# Altium schematic symbol library PDU_YEDEK.SchLib: 83 symbols (part 7 of 10)
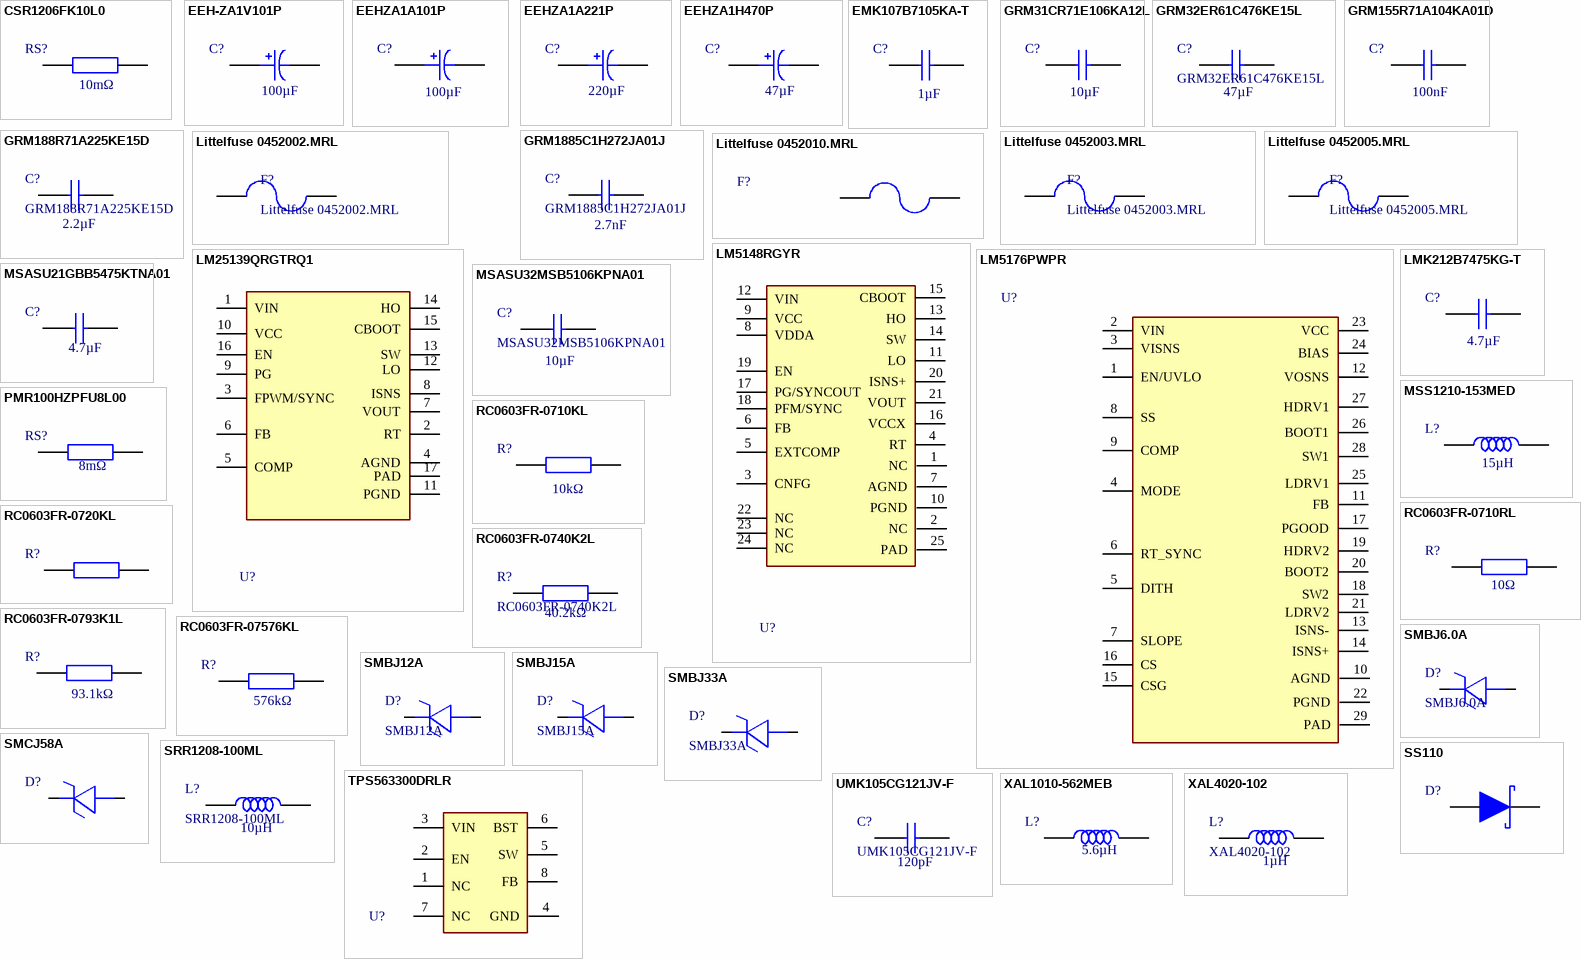
[diagram p8: symbols CSR1206FK10L0 to XAL4020‑102]

## GRM31CR71E106KA12L
designator C?  value 10µF  (hidden comment: GRM31CR71E106KA12L)
25V 10uF X7R ±10% 1206 Multilayer Ceramic Capacitors MLCC - SMD/SMT ROHS; Manufacturer: Murata; Manufacturer Lifecycle Status: IN PRODUCTION; Supplier: Farnell; Supplier Part Number: GRM31CR71E106KA12L; Manufacturer Part Number: GRM31CR71E106KA12L; RoHS: Compliant; Category: Ceramic Capacitors; Stock: 33950; Pricing: 5=0,287, 50=0,122, 250=0,109, 500=0,085, 1000=0,0755 (EUR); Case/Package: 1206; Case Code (Imperial): 1206; Case Code (Metric): 3216; China RoHS: Compliant; Depth: 1.6mm; Dielectric: X7R; Dielectric Material: Ceramic; Height: 1.6mm; Lead Free: Lead Free; Length: 3.2mm; Lifecycle Status: Production; Material: Ceramic; Max Operating Temperature: 125°C; Min Operating Temperature: -55°C; Mounting Technology: Surface Mount; Pins: 2; Number of Terminals: 2; Packaging: Cut Tape; Radiation Hardening: No; REACH SVHC: Yes; Schedule B: 8532240020, 8532240020|8532240020, 8532240020|8532240020|8532240020, 8532240020|8532240020|8532240020|8532240020; Termination: SMD/SMT; Thickness: 1.6mm; Tolerance: 10%; Voltage: 25V; Voltage Rating: 25V; Voltage Rating (DC): 25V; Width: 1.6mm; ComponentLink1URL: https://datasheet.octopart.com:443/GRM31CR71E106KA12L-Murata-datasheet-32479577.pdf?src-supplier=Upverter; ComponentLink1Description: https://datasheet.octopart.com:443/GRM31CR71E106KA12L-Murata-datasheet-32479577.pdf?src-supplier=Upverter; ComponentLink2URL: https://datasheet.octopart.com:443/GRM31CR71E106KA12L-Murata-datasheet-62320264.pdf?src-supplier=Farnell; ComponentLink2Description: https://datasheet.octopart.com:443/GRM31CR71E106KA12L-Murata-datasheet-62320264.pdf?src-supplier=Farnell; ComponentLink3URL: https://datasheet.octopart.com:443/GRM31CR71E106KA12L-Murata-datasheet-7550257.pdf?src-supplier=Farnell; ComponentLink3Description: https://datasheet.octopart.com:443/GRM31CR71E106KA12L-Murata-datasheet-7550257.pdf?src-supplier=Farnell; ComponentLink4URL: https://datasheet.octopart.com:443/GRM31CR71E106KA12L-Murata-datasheet-8817987.pdf?src-supplier=Newark; ComponentLink4Description: https://datasheet.octopart.com:443/GRM31CR71E106KA12L-Murata-datasheet-8817987.pdf?src-supplier=Newark; ComponentLink5URL: https://datasheet.octopart.com:443/GRM31CR71E106KA12L-Murata-datasheet-8085059.pdf?src-supplier=element14+APAC; ComponentLink5Description: https://datasheet.octopart.com:443/GRM31CR71E106KA12L-Murata-datasheet-8085059.pdf?src-supplier=element14+APAC; ComponentLink6URL: https://datasheet.octopart.com:443/GRM31CR71E106KA12L-Murata-datasheet-17853182.pdf?src-supplier=element14+APAC; ComponentLink6Description: https://datasheet.octopart.com:443/GRM31CR71E106KA12L-Murata-datasheet-17853182.pdf?src-supplier=element14+APAC; ComponentLink7URL: https://datasheet.octopart.com:443/GRM31CR71E106KA12L-Murata-datasheet-14397761.pdf?src-supplier=Future+Electronics; ComponentLink7Description: https://datasheet.octopart.com:443/GRM31CR71E106KA12L-Murata-datasheet-14397761.pdf?src-supplier=Future+Electronics; ComponentLink8URL: https://datasheet.octopart.com:443/GRM31CR71E106KA12L-Murata-datasheet-22122223.pdf?src-supplier=Future+Electronics; ComponentLink8Description: https://datasheet.octopart.com:443/GRM31CR71E106KA12L-Murata-datasheet-22122223.pdf?src-supplier=Future+Electronics; ComponentLink9URL: https://datasheet.octopart.com:443/GRM31CR71E106KA12L-Murata-datasheet-12536416.pdf?src-supplier=Future+Electronics; ComponentLink9Description: https://datasheet.octopart.com:443/GRM31CR71E106KA12L-Murata-datasheet-12536416.pdf?src-supplier=Future+Electronics; ComponentLink10URL: https://datasheet.octopart.com:443/GRM31CR71E106KA12L-Murata-datasheet-38883574.pdf?src-supplier=Future+Electronics; ComponentLink10Description: https://datasheet.octopart.com:443/GRM31CR71E106KA12L-Murata-datasheet-38883574.pdf?src-supplier=Future+Electronics; ComponentLink11URL: https://datasheet.octopart.com:443/GRM31CR71E106KA12L-Murata-datasheet-165579666.pdf?src-supplier=TME; ComponentLink11Description: https://datasheet.octopart.com:443/GRM31CR71E106KA12L-Murata-datasheet-165579666.pdf?src-supplier=TME; ComponentLink12URL: https://datasheet.octopart.com:443/GRM31CR71E106KA12L-Murata-datasheet-59876780.pdf?src-supplier=TME; ComponentLink12Description: https://datasheet.octopart.com:443/GRM31CR71E106KA12L-Murata-datasheet-59876780.pdf?src-supplier=TME; ComponentLink13URL: https://datasheet.octopart.com:443/GRM31CR71E106KA12L-Murata-datasheet-140709144.pdf?src-supplier=Ciiva; ComponentLink13Description: https://datasheet.octopart.com:443/GRM31CR71E106KA12L-Murata-datasheet-140709144.pdf?src-supplier=Ciiva; ComponentLink14URL: https://datasheet.octopart.com:443/GRM31CR71E106KA12L-Murata-datasheet-138746391.pdf?src-supplier=Ciiva; ComponentLink14Description: https://datasheet.octopart.com:443/GRM31CR71E106KA12L-Murata-datasheet-138746391.pdf?src-supplier=Ciiva; ComponentLink15URL: https://datasheet.octopart.com:443/GRM31CR71E106KA12L-Murata-datasheet-102370999.pdf?src-supplier=HQonline; ComponentLink15Description: https://datasheet.octopart.com:443/GRM31CR71E106KA12L-Murata-datasheet-102370999.pdf?src-supplier=HQonline; ComponentLink16URL: https://datasheet.octopart.com/GRM31CR71E106KA12L-Murata-datasheet-12515295.pdf; ComponentLink16Description: https://datasheet.octopart.com/GRM31CR71E106KA12L-Murata-datasheet-12515295.pdf; ComponentLink17URL: https://datasheet.octopart.com/GRM31CR71E106KA12L-Murata-datasheet-12510076.pdf; ComponentLink17Description: https://datasheet.octopart.com/GRM31CR71E106KA12L-Murata-datasheet-12510076.pdf; ComponentLink18URL: https://datasheet.octopart.com/GRM31CR71E106KA12L-Murata-datasheet-11978611.pdf; ComponentLink18Description: https://datasheet.octopart.com/GRM31CR71E106KA12L-Murata-datasheet-11978611.pdf; ComponentLink19URL: https://datasheet.octopart.com/GRM31CR71E106KA12L-Murata-datasheet-10025737.pdf; ComponentLink19Description: https://datasheet.octopart.com/GRM31CR71E106KA12L-Murata-datasheet-10025737.pdf; ComponentLink20URL: https://datasheet.octopart.com/GRM31CR71E106KA12L-Murata-datasheet-8819587.pdf; ComponentLink20Description: https://datasheet.octopart.com/GRM31CR71E106KA12L-Murata-datasheet-8819587.pdf; ComponentLink21URL: https://datasheet.octopart.com:443/GRM31CR71E106KA12L-Murata-datasheet-151453090.pdf?src-supplier=Arrow.cn; ComponentLink21Description: https://datasheet.octopart.com:443/GRM31CR71E106KA12L-Murata-datasheet-151453090.pdf?src-supplier=Arrow.cn; ComponentLink22URL: http://sigma.octopart.com:80/reach_statement/Murata-company-16.pdf?src-supplier=Compliance+Statements; ComponentLink22Description: http://sigma.octopart.com:80/reach_statement/Murata-company-16.pdf?src-supplier=Compliance+Statements
pins: 1, 2

## GRM32ER61C476KE15L
designator C?  value 47µF
16V 47uF X5R ±10% 1210 Multilayer Ceramic Capacitors MLCC - SMD/SMT ROHS; Manufacturer: Murata; Manufacturer Lifecycle Status: NRND; Manufacturer Package Identifier: 1210 (3225 Metric); Supplier: Farnell; Supplier Part Number: GRM32ER61C476KE15L; Manufacturer Part Number: GRM32ER61C476KE15L; RoHS: Compliant; Category: Ceramic Capacitors; Stock: 14000; Pricing: 1000=0,303 (EUR); Case/Package: 1210; Case Code (Imperial): 1210; Case Code (Metric): 3225; Depth: 2.5mm; Dielectric: X5R; Dielectric Material: Ceramic; Height: 2.5mm; Lead Free: Lead Free; Length: 3.2mm; Lifecycle Status: NRND; Material: Ceramic; Max Operating Temperature: 85°C; Min Operating Temperature: -55°C; Mounting Technology: Surface Mount; Pins: 2; Number of Terminals: 2; Radiation Hardening: No; REACH SVHC: Yes; Schedule B: 8532240020, 8532240020|8532240020, 8532240020|8532240020|8532240020, 8532240020|8532240020|8532240020|8532240020; Termination: SMD/SMT; Thickness: 2.5mm; Tolerance: 10%; Voltage: 16V; Voltage Rating: 16V; Voltage Rating (DC): 16V; Width: 2.5mm; ComponentLink1URL: https://datasheet.octopart.com:443/GRM32ER61C476KE15L-Murata-datasheet-11893327.pdf?src-supplier=_legacy+Avnet; ComponentLink1Description: https://datasheet.octopart.com:443/GRM32ER61C476KE15L-Murata-datasheet-11893327.pdf?src-supplier=_legacy+Avnet; ComponentLink2URL: https://datasheet.octopart.com:443/GRM32ER61C476KE15L-Murata-datasheet-62317406.pdf?src-supplier=element14+APAC; ComponentLink2Description: https://datasheet.octopart.com:443/GRM32ER61C476KE15L-Murata-datasheet-62317406.pdf?src-supplier=element14+APAC; ComponentLink3URL: https://datasheet.octopart.com:443/GRM32ER61C476KE15L-Murata-datasheet-17853190.pdf?src-supplier=element14+APAC; ComponentLink3Description: https://datasheet.octopart.com:443/GRM32ER61C476KE15L-Murata-datasheet-17853190.pdf?src-supplier=element14+APAC; ComponentLink4URL: https://datasheet.octopart.com:443/GRM32ER61C476KE15L-Murata-datasheet-8817987.pdf?src-supplier=Newark; ComponentLink4Description: https://datasheet.octopart.com:443/GRM32ER61C476KE15L-Murata-datasheet-8817987.pdf?src-supplier=Newark; ComponentLink5URL: https://datasheet.octopart.com:443/GRM32ER61C476KE15L-Murata-datasheet-14403028.pdf?src-supplier=Future+Electronics; ComponentLink5Description: https://datasheet.octopart.com:443/GRM32ER61C476KE15L-Murata-datasheet-14403028.pdf?src-supplier=Future+Electronics; ComponentLink6URL: https://datasheet.octopart.com:443/GRM32ER61C476KE15L-Murata-datasheet-22122223.pdf?src-supplier=Future+Electronics; ComponentLink6Description: https://datasheet.octopart.com:443/GRM32ER61C476KE15L-Murata-datasheet-22122223.pdf?src-supplier=Future+Electronics; ComponentLink7URL: https://datasheet.octopart.com:443/GRM32ER61C476KE15L-Murata-datasheet-44109711.pdf?src-supplier=Future+Electronics; ComponentLink7Description: https://datasheet.octopart.com:443/GRM32ER61C476KE15L-Murata-datasheet-44109711.pdf?src-supplier=Future+Electronics; ComponentLink8URL: https://datasheet.octopart.com:443/GRM32ER61C476KE15L-Murata-datasheet-165579666.pdf?src-supplier=TME; ComponentLink8Description: https://datasheet.octopart.com:443/GRM32ER61C476KE15L-Murata-datasheet-165579666.pdf?src-supplier=TME; ComponentLink9URL: https://datasheet.octopart.com:443/GRM32ER61C476KE15L-Murata-datasheet-59876780.pdf?src-supplier=TME; ComponentLink9Description: https://datasheet.octopart.com:443/GRM32ER61C476KE15L-Murata-datasheet-59876780.pdf?src-supplier=TME; ComponentLink10URL: https://datasheet.octopart.com:443/GRM32ER61C476KE15L-Murata-datasheet-140709622.pdf?src-supplier=Ciiva; ComponentLink10Description: https://datasheet.octopart.com:443/GRM32ER61C476KE15L-Murata-datasheet-140709622.pdf?src-supplier=Ciiva; ComponentLink11URL: https://datasheet.octopart.com:443/GRM32ER61C476KE15L-Murata-datasheet-138747025.pdf?src-supplier=Ciiva; ComponentLink11Description: https://datasheet.octopart.com:443/GRM32ER61C476KE15L-Murata-datasheet-138747025.pdf?src-supplier=Ciiva; ComponentLink12URL: https://datasheet.octopart.com:443/GRM32ER61C476KE15L-Murata-datasheet-102370999.pdf?src-supplier=HQonline; ComponentLink12Description: https://datasheet.octopart.com:443/GRM32ER61C476KE15L-Murata-datasheet-102370999.pdf?src-supplier=HQonline; ComponentLink13URL: https://datasheet.octopart.com:443/GRM32ER61C476KE15L-Murata-datasheet-14047368.pdf?src-supplier=iiiC; ComponentLink13Description: https://datasheet.octopart.com:443/GRM32ER61C476KE15L-Murata-datasheet-14047368.pdf?src-supplier=iiiC; ComponentLink14URL: https://datasheet.octopart.com/GRM32ER61C476KE15L-Murata-datasheet-12515295.pdf; ComponentLink14Description: https://datasheet.octopart.com/GRM32ER61C476KE15L-Murata-datasheet-12515295.pdf; ComponentLink15URL: https://datasheet.octopart.com/GRM32ER61C476KE15L-Murata-datasheet-12510076.pdf; ComponentLink15Description: https://datasheet.octopart.com/GRM32ER61C476KE15L-Murata-datasheet-12510076.pdf; ComponentLink16URL: https://datasheet.octopart.com/GRM32ER61C476KE15L-Murata-datasheet-11978611.pdf; ComponentLink16Description: https://datasheet.octopart.com/GRM32ER61C476KE15L-Murata-datasheet-11978611.pdf; ComponentLink17URL: https://datasheet.octopart.com/GRM32ER61C476KE15L-Murata-datasheet-10025737.pdf; ComponentLink17Description: https://datasheet.octopart.com/GRM32ER61C476KE15L-Murata-datasheet-10025737.pdf; ComponentLink18URL: https://datasheet.octopart.com/GRM32ER61C476KE15L-Murata-datasheet-8819587.pdf; ComponentLink18Description: https://datasheet.octopart.com/GRM32ER61C476KE15L-Murata-datasheet-8819587.pdf; ComponentLink19URL: https://datasheet.octopart.com:443/GRM32ER61C476KE15L.-Murata-datasheet-5332913.pdf?src-supplier=Farnell; ComponentLink19Description: https://datasheet.octopart.com:443/GRM32ER61C476KE15L.-Murata-datasheet-5332913.pdf?src-supplier=Farnell; ComponentLink20URL: http://sigma.octopart.com:80/reach_statement/Murata-company-16.pdf?src-supplier=Compliance+Statements; ComponentLink20Description: http://sigma.octopart.com:80/reach_statement/Murata-company-16.pdf?src-supplier=Compliance+Statements
pins: 1, 2

## GRM155R71A104KA01D
designator C?  value 100nF  (hidden comment: GRM155R71A104KA01D)
10V 100nF X7R ±10% 0402 Multilayer Ceramic Capacitors MLCC - SMD/SMT ROHS; Manufacturer: Murata; Manufacturer Lifecycle Status: NRND; Dissipation Factor: 0.035%; Supplier: Farnell; Supplier Part Number: GRM155R71A104KA01D; Manufacturer Part Number: GRM155R71A104KA01D; RoHS: Compliant; Category: Ceramic Capacitors; Stock: 200000; Pricing: 10000=0,0029 (EUR); Case/Package: 0402; Case Code (Imperial): 0402; Case Code (Metric): 1005; Country of Origin: Japan, Mainland China, Philippines, Singapore, Thailand; Depth: 500µm; Dielectric: X7R; Dielectric Material: Ceramic; Export Control Classification Number (ECCN) Code: EAR99; Height: 500µm; Harmonized Tariff Schedule (HTS) Code: 8532.24.00.20; Introduction Date: 2004-11-19; Lead Free: Lead Free; Length: 1mm; Lifecycle Status: NRND; Material: Ceramic; Max Operating Temperature: 125°C; Min Operating Temperature: -55°C; Mounting Technology: Surface Mount; Pins: 2; Number of Terminals: 2; Packaging: Cut Tape; Radiation Hardening: No; REACH SVHC: Yes; Schedule B: 8532240020, 8532240020|8532240020, 8532240020|8532240020|8532240020, 8532240020|8532240020|8532240020|8532240020; Termination: SMD/SMT; Thickness: 500µm; Tolerance: 10%; Voltage: 10V; Voltage Rating: 10V; Voltage Rating (DC): 10V; Width: 500µm; ComponentLink1URL: https://datasheet.octopart.com:443/GRM155R71A104KA01D-Murata-datasheet-62317114.pdf?src-supplier=element14+APAC; ComponentLink1Description: https://datasheet.octopart.com:443/GRM155R71A104KA01D-Murata-datasheet-62317114.pdf?src-supplier=element14+APAC; ComponentLink2URL: https://datasheet.octopart.com:443/GRM155R71A104KA01D-Murata-datasheet-17853094.pdf?src-supplier=element14+APAC; ComponentLink2Description: https://datasheet.octopart.com:443/GRM155R71A104KA01D-Murata-datasheet-17853094.pdf?src-supplier=element14+APAC; ComponentLink3URL: https://datasheet.octopart.com/GRM155R71A104KA01D-Murata-datasheet-12515295.pdf; ComponentLink3Description: https://datasheet.octopart.com/GRM155R71A104KA01D-Murata-datasheet-12515295.pdf; ComponentLink4URL: https://datasheet.octopart.com/GRM155R71A104KA01D-Murata-datasheet-12510076.pdf; ComponentLink4Description: https://datasheet.octopart.com/GRM155R71A104KA01D-Murata-datasheet-12510076.pdf; ComponentLink5URL: https://datasheet.octopart.com/GRM155R71A104KA01D-Murata-datasheet-11978611.pdf; ComponentLink5Description: https://datasheet.octopart.com/GRM155R71A104KA01D-Murata-datasheet-11978611.pdf; ComponentLink6URL: https://datasheet.octopart.com/GRM155R71A104KA01D-Murata-datasheet-10025737.pdf; ComponentLink6Description: https://datasheet.octopart.com/GRM155R71A104KA01D-Murata-datasheet-10025737.pdf; ComponentLink7URL: https://datasheet.octopart.com/GRM155R71A104KA01D-Murata-datasheet-8819587.pdf; ComponentLink7Description: https://datasheet.octopart.com/GRM155R71A104KA01D-Murata-datasheet-8819587.pdf; ComponentLink8URL: https://datasheet.octopart.com/GRM155R71A104KA01D-Murata-datasheet-14400553.pdf; ComponentLink8Description: https://datasheet.octopart.com/GRM155R71A104KA01D-Murata-datasheet-14400553.pdf; ComponentLink9URL: https://datasheet.octopart.com:443/GRM155R71A104KA01D-Murata-datasheet-8817987.pdf?src-supplier=Newark; ComponentLink9Description: https://datasheet.octopart.com:443/GRM155R71A104KA01D-Murata-datasheet-8817987.pdf?src-supplier=Newark; ComponentLink10URL: https://datasheet.octopart.com:443/GRM155R71A104KA01D-Murata-datasheet-141266224.pdf?src-supplier=Ciiva; ComponentLink10Description: https://datasheet.octopart.com:443/GRM155R71A104KA01D-Murata-datasheet-141266224.pdf?src-supplier=Ciiva; ComponentLink11URL: https://datasheet.octopart.com:443/GRM155R71A104KA01D-Murata-datasheet-140690910.pdf?src-supplier=Ciiva; ComponentLink11Description: https://datasheet.octopart.com:443/GRM155R71A104KA01D-Murata-datasheet-140690910.pdf?src-supplier=Ciiva; ComponentLink12URL: https://datasheet.octopart.com:443/GRM155R71A104KA01D-Murata-datasheet-138740856.pdf?src-supplier=Ciiva; ComponentLink12Description: https://datasheet.octopart.com:443/GRM155R71A104KA01D-Murata-datasheet-138740856.pdf?src-supplier=Ciiva; ComponentLink13URL: https://datasheet.octopart.com:443/GRM155R71A104KA01D-Murata-datasheet-81455577.pdf?src-supplier=TME; ComponentLink13Description: https://datasheet.octopart.com:443/GRM155R71A104KA01D-Murata-datasheet-81455577.pdf?src-supplier=TME; ComponentLink14URL: https://datasheet.octopart.com:443/GRM155R71A104KA01D-Murata-datasheet-22122223.pdf?src-supplier=Future+Electronics; ComponentLink14Description: https://datasheet.octopart.com:443/GRM155R71A104KA01D-Murata-datasheet-22122223.pdf?src-supplier=Future+Electronics; ComponentLink15URL: https://datasheet.octopart.com:443/GRM155R71A104KA01D-Murata-datasheet-11966204.pdf?src-supplier=Arrow+Electronics; ComponentLink15Description: https://datasheet.octopart.com:443/GRM155R71A104KA01D-Murata-datasheet-11966204.pdf?src-supplier=Arrow+Electronics; ComponentLink16URL: https://datasheet.octopart.com:443/GRM155R71A104KA01D-Murata-datasheet-7576002.pdf?src-supplier=Jameco; ComponentLink16Description: https://datasheet.octopart.com:443/GRM155R71A104KA01D-Murata-datasheet-7576002.pdf?src-supplier=Jameco; ComponentLink17URL: https://datasheet.octopart.com:443/GRM155R71A104KA01D-Murata-datasheet-8326030.pdf?src-supplier=_legacy+Avnet; ComponentLink17Description: https://datasheet.octopart.com:443/GRM155R71A104KA01D-Murata-datasheet-8326030.pdf?src-supplier=_legacy+Avnet; ComponentLink18URL: https://datasheet.octopart.com:443/GRM155R71A104KA01D-Murata-datasheet-148211.pdf?src-supplier=Garrett; ComponentLink18Description: https://datasheet.octopart.com:443/GRM155R71A104KA01D-Murata-datasheet-148211.pdf?src-supplier=Garrett; ComponentLink19URL: http://sigma.octopart.com:80/reach_statement/Murata-company-16.pdf?src-supplier=Compliance+Statements; ComponentLink19Description: http://sigma.octopart.com:80/reach_statement/Murata-company-16.pdf?src-supplier=Compliance+Statements
pins: 1, 2

## GRM188R71A225KE15D
designator C?  value 2.2µF
10V 2.2uF X7R ±10% 0603 Multilayer Ceramic Capacitors MLCC - SMD/SMT ROHS; Manufacturer: Murata; Manufacturer Lifecycle Status: IN PRODUCTION; Supplier: Farnell; Supplier Part Number: GRM188R71A225KE15D; Manufacturer Part Number: GRM188R71A225KE15D; RoHS: Compliant; Category: Ceramic Capacitors; Stock: 68000; Pricing: 4000=0,022 (EUR); Case/Package: 0603; Case Code (Imperial): 0603; Case Code (Metric): 1608; Country of Origin: Philippines; Depth: 800µm; Dielectric: X7R; Dielectric Material: Ceramic; Export Control Classification Number (ECCN) Code: EAR99; Height: 800µm; Harmonized Tariff Schedule (HTS) Code: 8532.24.00.20; Introduction Date: 2006-06-22; Lead Free: Lead Free; Length: 1.6mm; Lifecycle Status: Production; Material: Ceramic; Max Operating Temperature: 125°C; Min Operating Temperature: -55°C; Mounting Technology: Surface Mount; Pins: 2; Number of Terminals: 2; Packaging: Cut Tape; REACH SVHC: Yes; Schedule B: 8532240020, 8532240020|8532240020, 8532240020|8532240020|8532240020, 8532240020|8532240020|8532240020|8532240020; Termination: SMD/SMT; Thickness: 800µm; Tolerance: 10%; Voltage: 10V; Voltage Rating: 10V; Voltage Rating (DC): 10V; Weight: 2.012816mg; Width: 800µm; ComponentLink1URL: https://datasheet.octopart.com:443/GRM188R71A225KE15D-Murata-datasheet-62317205.pdf?src-supplier=element14+APAC; ComponentLink1Description: https://datasheet.octopart.com:443/GRM188R71A225KE15D-Murata-datasheet-62317205.pdf?src-supplier=element14+APAC; ComponentLink2URL: https://datasheet.octopart.com:443/GRM188R71A225KE15D-Murata-datasheet-14713224.pdf?src-supplier=element14+APAC; ComponentLink2Description: https://datasheet.octopart.com:443/GRM188R71A225KE15D-Murata-datasheet-14713224.pdf?src-supplier=element14+APAC; ComponentLink3URL: https://datasheet.octopart.com:443/GRM188R71A225KE15D-Murata-datasheet-8814637.pdf?src-supplier=Newark; ComponentLink3Description: https://datasheet.octopart.com:443/GRM188R71A225KE15D-Murata-datasheet-8814637.pdf?src-supplier=Newark; ComponentLink4URL: https://datasheet.octopart.com/GRM188R71A225KE15D-Murata-datasheet-12526711.pdf; ComponentLink4Description: https://datasheet.octopart.com/GRM188R71A225KE15D-Murata-datasheet-12526711.pdf; ComponentLink5URL: https://datasheet.octopart.com/GRM188R71A225KE15D-Murata-datasheet-12515295.pdf; ComponentLink5Description: https://datasheet.octopart.com/GRM188R71A225KE15D-Murata-datasheet-12515295.pdf; ComponentLink6URL: https://datasheet.octopart.com/GRM188R71A225KE15D-Murata-datasheet-12510076.pdf; ComponentLink6Description: https://datasheet.octopart.com/GRM188R71A225KE15D-Murata-datasheet-12510076.pdf; ComponentLink7URL: https://datasheet.octopart.com/GRM188R71A225KE15D-Murata-datasheet-11978611.pdf; ComponentLink7Description: https://datasheet.octopart.com/GRM188R71A225KE15D-Murata-datasheet-11978611.pdf; ComponentLink8URL: https://datasheet.octopart.com/GRM188R71A225KE15D-Murata-datasheet-10025737.pdf; ComponentLink8Description: https://datasheet.octopart.com/GRM188R71A225KE15D-Murata-datasheet-10025737.pdf; ComponentLink9URL: https://datasheet.octopart.com/GRM188R71A225KE15D-Murata-datasheet-8819587.pdf; ComponentLink9Description: https://datasheet.octopart.com/GRM188R71A225KE15D-Murata-datasheet-8819587.pdf; ComponentLink10URL: https://datasheet.octopart.com:443/GRM188R71A225KE15D-Murata-datasheet-165579666.pdf?src-supplier=TME; ComponentLink10Description: https://datasheet.octopart.com:443/GRM188R71A225KE15D-Murata-datasheet-165579666.pdf?src-supplier=TME; ComponentLink11URL: https://datasheet.octopart.com:443/GRM188R71A225KE15D-Murata-datasheet-59876780.pdf?src-supplier=TME; ComponentLink11Description: https://datasheet.octopart.com:443/GRM188R71A225KE15D-Murata-datasheet-59876780.pdf?src-supplier=TME; ComponentLink12URL: https://datasheet.octopart.com:443/GRM188R71A225KE15D-Murata-datasheet-141274968.pdf?src-supplier=Ciiva; ComponentLink12Description: https://datasheet.octopart.com:443/GRM188R71A225KE15D-Murata-datasheet-141274968.pdf?src-supplier=Ciiva; ComponentLink13URL: https://datasheet.octopart.com:443/GRM188R71A225KE15D-Murata-datasheet-140705380.pdf?src-supplier=Ciiva; ComponentLink13Description: https://datasheet.octopart.com:443/GRM188R71A225KE15D-Murata-datasheet-140705380.pdf?src-supplier=Ciiva; ComponentLink14URL: https://datasheet.octopart.com:443/GRM188R71A225KE15D-Murata-datasheet-138742948.pdf?src-supplier=Ciiva; ComponentLink14Description: https://datasheet.octopart.com:443/GRM188R71A225KE15D-Murata-datasheet-138742948.pdf?src-supplier=Ciiva; ComponentLink15URL: https://datasheet.octopart.com:443/GRM188R71A225KE15D-Murata-datasheet-82944801.pdf?src-supplier=Future+Electronics; ComponentLink15Description: https://datasheet.octopart.com:443/GRM188R71A225KE15D-Murata-datasheet-82944801.pdf?src-supplier=Future+Electronics; ComponentLink16URL: https://datasheet.octopart.com:443/GRM188R71A225KE15D-Murata-datasheet-22122223.pdf?src-supplier=Future+Electronics; ComponentLink16Description: https://datasheet.octopart.com:443/GRM188R71A225KE15D-Murata-datasheet-22122223.pdf?src-supplier=Future+Electronics; ComponentLink17URL: https://datasheet.octopart.com:443/GRM188R71A225KE15D-Murata-datasheet-8324774.pdf?src-supplier=Future+Electronics; ComponentLink17Description: https://datasheet.octopart.com:443/GRM188R71A225KE15D-Murata-datasheet-8324774.pdf?src-supplier=Future+Electronics; ComponentLink18URL: https://datasheet.octopart.com:443/GRM188R71A225KE15D-Murata-datasheet-502279.pdf?src-supplier=Future+Electronics; ComponentLink18Description: https://datasheet.octopart.com:443/GRM188R71A225KE15D-Murata-datasheet-502279.pdf?src-supplier=Future+Electronics; ComponentLink19URL: https://datasheet.octopart.com:443/GRM188R71A225KE15D-Murata-datasheet-44107671.pdf?src-supplier=Future+Electronics; ComponentLink19Description: https://datasheet.octopart.com:443/GRM188R71A225KE15D-Murata-datasheet-44107671.pdf?src-supplier=Future+Electronics; ComponentLink20URL: https://datasheet.octopart.com:443/GRM188R71A225KE15D-Murata-datasheet-12510170.pdf?src-supplier=Factory+Futures; ComponentLink20Description: https://datasheet.octopart.com:443/GRM188R71A225KE15D-Murata-datasheet-12510170.pdf?src-supplier=Factory+Futures; ComponentLink21URL: https://datasheet.octopart.com:443/GRM188R71A225KE15D-Murata-datasheet-8517407.pdf?src-supplier=Factory+Futures; ComponentLink21Description: https://datasheet.octopart.com:443/GRM188R71A225KE15D-Murata-datasheet-8517407.pdf?src-supplier=Factory+Futures; ComponentLink22URL: https://datasheet.octopart.com:443/GRM188R71A225KE15D-Murata-datasheet-8387045.pdf?src-supplier=Factory+Futures; ComponentLink22Description: https://datasheet.octopart.com:443/GRM188R71A225KE15D-Murata-datasheet-8387045.pdf?src-supplier=Factory+Futures; ComponentLink23URL: https://datasheet.octopart.com:443/GRM188R71A225KE15D-Murata-datasheet-8324201.pdf?src-supplier=Factory+Futures; ComponentLink23Description: https://datasheet.octopart.com:443/GRM188R71A225KE15D-Murata-datasheet-8324201.pdf?src-supplier=Factory+Futures; ComponentLink24URL: https://datasheet.octopart.com:443/GRM188R71A225KE15D-Murata-datasheet-7628724.pdf?src-supplier=Factory+Futures; ComponentLink24Description: https://datasheet.octopart.com:443/GRM188R71A225KE15D-Murata-datasheet-7628724.pdf?src-supplier=Factory+Futures; ComponentLink25URL: https://datasheet.octopart.com:443/GRM188R71A225KE15D-Murata-datasheet-552801.pdf?src-supplier=Factory+Futures; ComponentLink25Description: https://datasheet.octopart.com:443/GRM188R71A225KE15D-Murata-datasheet-552801.pdf?src-supplier=Factory+Futures; ComponentLink26URL: https://datasheet.octopart.com:443/GRM188R71A225KE15D-Murata-datasheet-11727461.pdf?src-supplier=Arrow+Electronics; ComponentLink26Description: https://datasheet.octopart.com:443/GRM188R71A225KE15D-Murata-datasheet-11727461.pdf?src-supplier=Arrow+Electronics; ComponentLink27URL: https://datasheet.octopart.com:443/GRM188R71A225KE15D-Murata-datasheet-118811.pdf?src-supplier=DigiKey; ComponentLink27Description: https://datasheet.octopart.com:443/GRM188R71A225KE15D-Murata-datasheet-118811.pdf?src-supplier=DigiKey; ComponentLink28URL: http://sigma.octopart.com:80/reach_statement/Murata-company-16.pdf?src-supplier=Compliance+Statements; ComponentLink28Description: http://sigma.octopart.com:80/reach_statement/Murata-company-16.pdf?src-supplier=Compliance+Statements
pins: 1, 2

## GRM1885C1H272JA01J
designator C?  value 2.7nF
0603 2.7 nF 50 V ±5% Tolerance C0G SMT Multilayer Ceramic Capacitor; Manufacturer: Murata; Manufacturer Lifecycle Status: IN PRODUCTION; Temperature Coefficient: 30ppm/°C; Voltage Rating: 50V; Supplier: Arrow Electronics; Supplier Part Number: GRM1885C1H272JA01J; Manufacturer Part Number: GRM1885C1H272JA01J; RoHS: Compliant; Category: Ceramic Capacitors; Stock: 5058; Pricing: 1=0,004, 10=0,0037, 25=0,0033, 100=0,003, 250=0,0027, 500=0,0023, 1000=0,002, 3000=0,0017 (USD); Case/Package: 0603; Case Code (Imperial): 0603; Case Code (Metric): 1608; Depth: 800µm; Dielectric: C0G; Dielectric Material: Ceramic; Export Control Classification Number (ECCN) Code: EAR99; Height: 800µm; Harmonized Tariff Schedule (HTS) Code: 8532.24.00.20; Introduction Date: 2004-09-04; Lead Free: Lead Free; Length: 1.6mm; Lifecycle Status: Production; Material: Ceramic; Max Operating Temperature: 125°C; Min Operating Temperature: -55°C; Mounting Technology: Surface Mount; Number of Terminals: 2; Packaging: Tape & Reel; Radiation Hardening: No; REACH SVHC: Yes; Schedule B: 8532240020, 8532240020|8532240020|8532240020|8532240020|8532240020; Termination: SMD/SMT; Thickness: 800µm; Tolerance: 5%; Voltage Rating (DC): 50V; Width: 800µm; ComponentLink1URL: https://datasheet.octopart.com:443/GRM1885C1H272JA01J-Murata-datasheet-8328230.pdf?src-supplier=Future+Electronics; ComponentLink1Description: https://datasheet.octopart.com:443/GRM1885C1H272JA01J-Murata-datasheet-8328230.pdf?src-supplier=Future+Electronics; ComponentLink2URL: https://datasheet.octopart.com:443/GRM1885C1H272JA01J-Murata-datasheet-22122223.pdf?src-supplier=Future+Electronics; ComponentLink2Description: https://datasheet.octopart.com:443/GRM1885C1H272JA01J-Murata-datasheet-22122223.pdf?src-supplier=Future+Electronics; ComponentLink3URL: https://datasheet.octopart.com:443/GRM1885C1H272JA01J-Murata-datasheet-26530162.pdf?src-supplier=Future+Electronics; ComponentLink3Description: https://datasheet.octopart.com:443/GRM1885C1H272JA01J-Murata-datasheet-26530162.pdf?src-supplier=Future+Electronics; ComponentLink4URL: https://datasheet.octopart.com:443/GRM1885C1H272JA01J-Murata-datasheet-141274271.pdf?src-supplier=Ciiva; ComponentLink4Description: https://datasheet.octopart.com:443/GRM1885C1H272JA01J-Murata-datasheet-141274271.pdf?src-supplier=Ciiva; ComponentLink5URL: https://datasheet.octopart.com:443/GRM1885C1H272JA01J-Murata-datasheet-140696475.pdf?src-supplier=Ciiva; ComponentLink5Description: https://datasheet.octopart.com:443/GRM1885C1H272JA01J-Murata-datasheet-140696475.pdf?src-supplier=Ciiva; ComponentLink6URL: https://datasheet.octopart.com:443/GRM1885C1H272JA01J-Murata-datasheet-138741538.pdf?src-supplier=Ciiva; ComponentLink6Description: https://datasheet.octopart.com:443/GRM1885C1H272JA01J-Murata-datasheet-138741538.pdf?src-supplier=Ciiva; ComponentLink7URL: https://datasheet.octopart.com:443/GRM1885C1H272JA01J-Murata-datasheet-155239085.pdf?src-supplier=Farnell; ComponentLink7Description: https://datasheet.octopart.com:443/GRM1885C1H272JA01J-Murata-datasheet-155239085.pdf?src-supplier=Farnell; ComponentLink8URL: https://datasheet.octopart.com/GRM1885C1H272JA01J-Murata-datasheet-12515295.pdf; ComponentLink8Description: https://datasheet.octopart.com/GRM1885C1H272JA01J-Murata-datasheet-12515295.pdf; ComponentLink9URL: https://datasheet.octopart.com/GRM1885C1H272JA01J-Murata-datasheet-12510076.pdf; ComponentLink9Description: https://datasheet.octopart.com/GRM1885C1H272JA01J-Murata-datasheet-12510076.pdf; ComponentLink10URL: https://datasheet.octopart.com/GRM1885C1H272JA01J-Murata-datasheet-11978611.pdf; ComponentLink10Description: https://datasheet.octopart.com/GRM1885C1H272JA01J-Murata-datasheet-11978611.pdf; ComponentLink11URL: https://datasheet.octopart.com/GRM1885C1H272JA01J-Murata-datasheet-10025737.pdf; ComponentLink11Description: https://datasheet.octopart.com/GRM1885C1H272JA01J-Murata-datasheet-10025737.pdf; ComponentLink12URL: https://datasheet.octopart.com/GRM1885C1H272JA01J-Murata-datasheet-8819587.pdf; ComponentLink12Description: https://datasheet.octopart.com/GRM1885C1H272JA01J-Murata-datasheet-8819587.pdf; ComponentLink13URL: https://datasheet.octopart.com/GRM1885C1H272JA01J-Murata-datasheet-14397128.pdf; ComponentLink13Description: https://datasheet.octopart.com/GRM1885C1H272JA01J-Murata-datasheet-14397128.pdf; ComponentLink14URL: http://sigma.octopart.com:80/reach_statement/Murata-company-16.pdf?src-supplier=Compliance+Statements; ComponentLink14Description: http://sigma.octopart.com:80/reach_statement/Murata-company-16.pdf?src-supplier=Compliance+Statements
pins: 1, 2

## Littelfuse 0452002.MRL
designator F?
452 Series - NANO2®Slo-Blo®Subminiature Surface Mount Fuse, 2 A, 125 VAC 125 VDC, RoHS; Approvals: CSA, PSE, UL, UR; Body Material: Ceramic; Current Rating: 2A; Ratings: CE, CSA, TUV; Value: 62.5mΩ; Time to Trip: 2ms; Voltage Rating: 125V; Supplier: Farnell; Supplier Part Number: 0452002.MRL; Manufacturer: Littelfuse; Manufacturer Part Number: 0452002.MRL; RoHS: Compliant; Category: Fuses; Stock: 14395; Pricing: 1=2,46, 50=1,56, 100=1,45, 250=1,29, 500=1,24 (EUR); Case/Package: SMD/SMT; China RoHS: Non-Compliant; Contact Plating: Gold; Country of Origin: Philippines; Depth: 2.69mm; Diameter: 2.69mm; Export Control Classification Number (ECCN) Code: EAR99; Fuse Current: 2A; Height: 2.69mm; Housing Material: Ceramic; Harmonized Tariff Schedule (HTS) Code: 8536.10.00.40; Introduction Date: 2005-07-31; Lead Free: Lead Free; Length: 6.1mm; Lifecycle Status: Production; Max Operating Temperature: 125°C; Min Operating Temperature: -55°C; Mounting Technology: Surface Mount; Pins: 2; Radiation Hardening: No; REACH SVHC: No; Terminal Material: Gold; Termination: SMD/SMT; Voltage Rating (AC): 125V; Voltage Rating (DC): 125V; Width: 2.69mm; Working Voltage: 125V; ComponentLink1URL: https://datasheet.octopart.com:443/0452002.MRL-Littelfuse-datasheet-150463550.pdf?src-supplier=IHS; ComponentLink1Description: https://datasheet.octopart.com:443/0452002.MRL-Littelfuse-datasheet-150463550.pdf?src-supplier=IHS; ComponentLink2URL: https://datasheet.octopart.com:443/0452002.MRL-Littelfuse-datasheet-24577142.pdf?src-supplier=Upverter; ComponentLink2Description: https://datasheet.octopart.com:443/0452002.MRL-Littelfuse-datasheet-24577142.pdf?src-supplier=Upverter; ComponentLink3URL: https://datasheet.octopart.com:443/0452002.MRL-Littelfuse-datasheet-4520.pdf?src-supplier=Farnell; ComponentLink3Description: https://datasheet.octopart.com:443/0452002.MRL-Littelfuse-datasheet-4520.pdf?src-supplier=Farnell; ComponentLink4URL: https://datasheet.octopart.com:443/0452002.MRL-Littelfuse-datasheet-65933515.pdf?src-supplier=Farnell; ComponentLink4Description: https://datasheet.octopart.com:443/0452002.MRL-Littelfuse-datasheet-65933515.pdf?src-supplier=Farnell; ComponentLink5URL: https://datasheet.octopart.com:443/0452002.MRL-Littelfuse-datasheet-71421564.pdf?src-supplier=Farnell; ComponentLink5Description: https://datasheet.octopart.com:443/0452002.MRL-Littelfuse-datasheet-71421564.pdf?src-supplier=Farnell; ComponentLink6URL: https://datasheet.octopart.com:443/0452002.MRL-Littelfuse-datasheet-524166.pdf?src-supplier=Farnell; ComponentLink6Description: https://datasheet.octopart.com:443/0452002.MRL-Littelfuse-datasheet-524166.pdf?src-supplier=Farnell; ComponentLink7URL: https://datasheet.octopart.com:443/0452002.MRL-Littelfuse-datasheet-22975140.pdf?src-supplier=Newark; ComponentLink7Description: https://datasheet.octopart.com:443/0452002.MRL-Littelfuse-datasheet-22975140.pdf?src-supplier=Newark; ComponentLink8URL: https://datasheet.octopart.com:443/0452002.MRL-Littelfuse-datasheet-11544861.pdf?src-supplier=Factory+Futures; ComponentLink8Description: https://datasheet.octopart.com:443/0452002.MRL-Littelfuse-datasheet-11544861.pdf?src-supplier=Factory+Futures; ComponentLink9URL: https://datasheet.octopart.com:443/0452002.MRL-Littelfuse-datasheet-8529048.pdf?src-supplier=Factory+Futures; ComponentLink9Description: https://datasheet.octopart.com:443/0452002.MRL-Littelfuse-datasheet-8529048.pdf?src-supplier=Factory+Futures; ComponentLink10URL: https://datasheet.octopart.com:443/0452002.MRL-Littelfuse-datasheet-520781.pdf?src-supplier=TME; ComponentLink10Description: https://datasheet.octopart.com:443/0452002.MRL-Littelfuse-datasheet-520781.pdf?src-supplier=TME; ComponentLink11URL: https://datasheet.octopart.com:443/0452002.MRL-Littelfuse-datasheet-170674127.pdf?src-supplier=JRH+Electronics; ComponentLink11Description: https://datasheet.octopart.com:443/0452002.MRL-Littelfuse-datasheet-170674127.pdf?src-supplier=JRH+Electronics; ComponentLink12URL: https://datasheet.octopart.com:443/0452002.MRL-Littelfuse-datasheet-128569235.pdf?src-supplier=ODG+(Origin+Data+Global); ComponentLink12Description: https://datasheet.octopart.com:443/0452002.MRL-Littelfuse-datasheet-128569235.pdf?src-supplier=ODG+(Origin+Data+Global); ComponentLink13URL: https://datasheet.octopart.com:443/0452002.MRL-Littelfuse-datasheet-41168772.pdf?src-supplier=element14+APAC; ComponentLink13Description: https://datasheet.octopart.com:443/0452002.MRL-Littelfuse-datasheet-41168772.pdf?src-supplier=element14+APAC; ComponentLink14URL: https://datasheet.octopart.com:443/0452002.MRL-Littelfuse-datasheet-183575672.pdf?src-supplier=Sager+Electronics; ComponentLink14Description: https://datasheet.octopart.com:443/0452002.MRL-Littelfuse-datasheet-183575672.pdf?src-supplier=Sager+Electronics; ComponentLink15URL: https://datasheet.octopart.com:443/0452002.MRL-Littelfuse-datasheet-43099221.pdf?src-supplier=RS+(Formerly+Allied+Electronics); ComponentLink15Description: https://datasheet.octopart.com:443/0452002.MRL-Littelfuse-datasheet-43099221.pdf?src-supplier=RS+(Formerly+Allied+Electronics); ComponentLink16URL: https://datasheet.octopart.com:443/0452002.MRL-Littelfuse-datasheet-17291148.pdf?src-supplier=Burklin+Elektronik; ComponentLink16Description: https://datasheet.octopart.com:443/0452002.MRL-Littelfuse-datasheet-17291148.pdf?src-supplier=Burklin+Elektronik
pins: 1, 2

## Littelfuse 0452003.MRL
designator F?
Fuse Chip Slow Blow Acting 3A 125V SMD Solder Pad 2410 Ceramic T/R CSA/PSE/UL; Approvals: CSA, PSE, UL, UR; Ratings: CE, CSA, TUV; Value: 34mΩ; Time to Trip: 2ms; Supplier: Farnell; Supplier Part Number: 0452003.MRL; Manufacturer: Littelfuse; Manufacturer Part Number: 0452003.MRL; RoHS: Compliant; Category: Fuses; Stock: 1599; Pricing: 1=2,43, 50=1,54, 100=1,45, 250=1,28, 500=1,24 (EUR); Body Material: Ceramic; Case/Package: SMD/SMT; China RoHS: Non-Compliant; Contact Plating: Gold; Country of Origin: Philippines; Current Rating: 3A; Depth: 2.69mm; Diameter: 2.69mm; Export Control Classification Number (ECCN) Code: EAR99; Fuse Current: 3A; Height: 2.69mm; Housing Material: Ceramic; Harmonized Tariff Schedule (HTS) Code: 8536.10.00.40; Introduction Date: 2005-07-31; Lead Free: Lead Free; Length: 6.1mm; Lifecycle Status: Production; Max Operating Temperature: 125°C; Min Operating Temperature: -55°C; Mounting Technology: Surface Mount; Pins: 2; Radiation Hardening: No; REACH SVHC: No; Terminal Material: Gold; Termination: SMD/SMT; Voltage Rating: 125V; Voltage Rating (AC): 125V; Voltage Rating (DC): 125V; Width: 2.69mm; Working Voltage: 125V; ComponentLink1URL: https://datasheet.octopart.com:443/0452003.MRL-Littelfuse-datasheet-150463550.pdf?src-supplier=IHS; ComponentLink1Description: https://datasheet.octopart.com:443/0452003.MRL-Littelfuse-datasheet-150463550.pdf?src-supplier=IHS; ComponentLink2URL: https://datasheet.octopart.com:443/0452003.MRL-Littelfuse-datasheet-128569235.pdf?src-supplier=ODG+(Origin+Data+Global); ComponentLink2Description: https://datasheet.octopart.com:443/0452003.MRL-Littelfuse-datasheet-128569235.pdf?src-supplier=ODG+(Origin+Data+Global); ComponentLink3URL: https://datasheet.octopart.com:443/0452003.MRL-Littelfuse-datasheet-4520.pdf?src-supplier=Farnell; ComponentLink3Description: https://datasheet.octopart.com:443/0452003.MRL-Littelfuse-datasheet-4520.pdf?src-supplier=Farnell; ComponentLink4URL: https://datasheet.octopart.com:443/0452003.MRL-Littelfuse-datasheet-65933515.pdf?src-supplier=Farnell; ComponentLink4Description: https://datasheet.octopart.com:443/0452003.MRL-Littelfuse-datasheet-65933515.pdf?src-supplier=Farnell; ComponentLink5URL: https://datasheet.octopart.com:443/0452003.MRL-Littelfuse-datasheet-71421564.pdf?src-supplier=Farnell; ComponentLink5Description: https://datasheet.octopart.com:443/0452003.MRL-Littelfuse-datasheet-71421564.pdf?src-supplier=Farnell; ComponentLink6URL: https://datasheet.octopart.com:443/0452003.MRL-Littelfuse-datasheet-524166.pdf?src-supplier=Farnell; ComponentLink6Description: https://datasheet.octopart.com:443/0452003.MRL-Littelfuse-datasheet-524166.pdf?src-supplier=Farnell; ComponentLink7URL: https://datasheet.octopart.com:443/0452003.MRL-Littelfuse-datasheet-22975140.pdf?src-supplier=Newark; ComponentLink7Description: https://datasheet.octopart.com:443/0452003.MRL-Littelfuse-datasheet-22975140.pdf?src-supplier=Newark; ComponentLink8URL: https://datasheet.octopart.com:443/0452003.MRL-Littelfuse-datasheet-520781.pdf?src-supplier=TME; ComponentLink8Description: https://datasheet.octopart.com:443/0452003.MRL-Littelfuse-datasheet-520781.pdf?src-supplier=TME; ComponentLink9URL: https://datasheet.octopart.com:443/0452003.MRL-Littelfuse-datasheet-170674127.pdf?src-supplier=JRH+Electronics; ComponentLink9Description: https://datasheet.octopart.com:443/0452003.MRL-Littelfuse-datasheet-170674127.pdf?src-supplier=JRH+Electronics; ComponentLink10URL: https://datasheet.octopart.com:443/0452003.MRL-Littelfuse-datasheet-24577142.pdf?src-supplier=Future+Electronics; ComponentLink10Description: https://datasheet.octopart.com:443/0452003.MRL-Littelfuse-datasheet-24577142.pdf?src-supplier=Future+Electronics; ComponentLink11URL: https://datasheet.octopart.com:443/0452003.MRL-Littelfuse-datasheet-11544861.pdf?src-supplier=Future+Electronics; ComponentLink11Description: https://datasheet.octopart.com:443/0452003.MRL-Littelfuse-datasheet-11544861.pdf?src-supplier=Future+Electronics; ComponentLink12URL: https://datasheet.octopart.com:443/0452003.MRL-Littelfuse-datasheet-8529048.pdf?src-supplier=Future+Electronics; ComponentLink12Description: https://datasheet.octopart.com:443/0452003.MRL-Littelfuse-datasheet-8529048.pdf?src-supplier=Future+Electronics; ComponentLink13URL: https://datasheet.octopart.com:443/0452003.MRL-Littelfuse-datasheet-41168772.pdf?src-supplier=element14+APAC; ComponentLink13Description: https://datasheet.octopart.com:443/0452003.MRL-Littelfuse-datasheet-41168772.pdf?src-supplier=element14+APAC; ComponentLink14URL: https://datasheet.octopart.com:443/0452003.MRL-Littelfuse-datasheet-183575672.pdf?src-supplier=Sager+Electronics; ComponentLink14Description: https://datasheet.octopart.com:443/0452003.MRL-Littelfuse-datasheet-183575672.pdf?src-supplier=Sager+Electronics; ComponentLink15URL: https://datasheet.octopart.com:443/0452003.MRL-Littelfuse-datasheet-43099221.pdf?src-supplier=RS+(Formerly+Allied+Electronics); ComponentLink15Description: https://datasheet.octopart.com:443/0452003.MRL-Littelfuse-datasheet-43099221.pdf?src-supplier=RS+(Formerly+Allied+Electronics); ComponentLink16URL: https://datasheet.octopart.com:443/0452003.MRL-Littelfuse-datasheet-17291148.pdf?src-supplier=Burklin+Elektronik; ComponentLink16Description: https://datasheet.octopart.com:443/0452003.MRL-Littelfuse-datasheet-17291148.pdf?src-supplier=Burklin+Elektronik
pins: 1, 2

## Littelfuse 0452005.MRL
designator F?
452 Series - NANO2®Slo-Blo®Subminiature Surface Mount Fuse, 5 A, 125 VAC 125 VDC, RoHS; Approvals: CSA, PSE, UL, UR; Body Material: Ceramic; Current Rating: 5A; Ratings: CE, CSA, TUV; Value: 13.6mΩ; Time to Trip: 2ms; Voltage Rating: 125V; Supplier: Farnell; Supplier Part Number: 0452005.MRL; Manufacturer: Littelfuse; Manufacturer Part Number: 0452005.MRL; RoHS: Compliant; Category: Fuses; Stock: 649; Pricing: 1=2,43, 50=1,54, 100=1,45, 250=1,28, 500=1,24 (EUR); Case/Package: SMD/SMT; China RoHS: Non-Compliant; Contact Plating: Gold; Country of Origin: Philippines; Depth: 2.69mm; Diameter: 2.69mm; Export Control Classification Number (ECCN) Code: EAR99; Fuse Current: 5A; Height: 2.69mm; Housing Material: Ceramic; Harmonized Tariff Schedule (HTS) Code: 8536.10.00.40; Introduction Date: 2005-07-31; Lead Free: Lead Free; Length: 6.1mm; Lifecycle Status: Production; Max Operating Temperature: 125°C; Min Operating Temperature: -55°C; Mounting Technology: Surface Mount; Pins: 2; Radiation Hardening: No; REACH SVHC: No; Terminal Material: Gold; Termination: SMD/SMT; Voltage Rating (AC): 125V; Voltage Rating (DC): 125V; Width: 2.69mm; ComponentLink1URL: https://datasheet.octopart.com:443/0452005.MRL-Littelfuse-datasheet-150463550.pdf?src-supplier=IHS; ComponentLink1Description: https://datasheet.octopart.com:443/0452005.MRL-Littelfuse-datasheet-150463550.pdf?src-supplier=IHS; ComponentLink2URL: https://datasheet.octopart.com:443/0452005.MRL-Littelfuse-datasheet-24577142.pdf?src-supplier=Upverter; ComponentLink2Description: https://datasheet.octopart.com:443/0452005.MRL-Littelfuse-datasheet-24577142.pdf?src-supplier=Upverter; ComponentLink3URL: https://datasheet.octopart.com:443/0452005.MRL-Littelfuse-datasheet-4520.pdf?src-supplier=Farnell; ComponentLink3Description: https://datasheet.octopart.com:443/0452005.MRL-Littelfuse-datasheet-4520.pdf?src-supplier=Farnell; ComponentLink4URL: https://datasheet.octopart.com:443/0452005.MRL-Littelfuse-datasheet-65933515.pdf?src-supplier=Farnell; ComponentLink4Description: https://datasheet.octopart.com:443/0452005.MRL-Littelfuse-datasheet-65933515.pdf?src-supplier=Farnell; ComponentLink5URL: https://datasheet.octopart.com:443/0452005.MRL-Littelfuse-datasheet-71421564.pdf?src-supplier=Farnell; ComponentLink5Description: https://datasheet.octopart.com:443/0452005.MRL-Littelfuse-datasheet-71421564.pdf?src-supplier=Farnell; ComponentLink6URL: https://datasheet.octopart.com:443/0452005.MRL-Littelfuse-datasheet-520781.pdf?src-supplier=Farnell; ComponentLink6Description: https://datasheet.octopart.com:443/0452005.MRL-Littelfuse-datasheet-520781.pdf?src-supplier=Farnell; ComponentLink7URL: https://datasheet.octopart.com:443/0452005.MRL-Littelfuse-datasheet-524166.pdf?src-supplier=Farnell; ComponentLink7Description: https://datasheet.octopart.com:443/0452005.MRL-Littelfuse-datasheet-524166.pdf?src-supplier=Farnell; ComponentLink8URL: https://datasheet.octopart.com:443/0452005.MRL-Littelfuse-datasheet-22975140.pdf?src-supplier=Newark; ComponentLink8Description: https://datasheet.octopart.com:443/0452005.MRL-Littelfuse-datasheet-22975140.pdf?src-supplier=Newark; ComponentLink9URL: https://datasheet.octopart.com:443/0452005.MRL-Littelfuse-datasheet-170674127.pdf?src-supplier=JRH+Electronics; ComponentLink9Description: https://datasheet.octopart.com:443/0452005.MRL-Littelfuse-datasheet-170674127.pdf?src-supplier=JRH+Electronics; ComponentLink10URL: https://datasheet.octopart.com:443/0452005.MRL-Littelfuse-datasheet-128569235.pdf?src-supplier=ODG+(Origin+Data+Global); ComponentLink10Description: https://datasheet.octopart.com:443/0452005.MRL-Littelfuse-datasheet-128569235.pdf?src-supplier=ODG+(Origin+Data+Global); ComponentLink11URL: https://datasheet.octopart.com:443/0452005.MRL-Littelfuse-datasheet-41168772.pdf?src-supplier=element14+APAC; ComponentLink11Description: https://datasheet.octopart.com:443/0452005.MRL-Littelfuse-datasheet-41168772.pdf?src-supplier=element14+APAC; ComponentLink12URL: https://datasheet.octopart.com:443/0452005.MRL-Littelfuse-datasheet-17291148.pdf?src-supplier=Burklin+Elektronik; ComponentLink12Description: https://datasheet.octopart.com:443/0452005.MRL-Littelfuse-datasheet-17291148.pdf?src-supplier=Burklin+Elektronik; ComponentLink13URL: https://datasheet.octopart.com:443/0452005.MRL-Littelfuse-datasheet-11544861.pdf?src-supplier=TME; ComponentLink13Description: https://datasheet.octopart.com:443/0452005.MRL-Littelfuse-datasheet-11544861.pdf?src-supplier=TME; ComponentLink14URL: https://datasheet.octopart.com:443/0452005.MRL-Littelfuse-datasheet-9634991.pdf?src-supplier=RS+(Formerly+Allied+Electronics); ComponentLink14Description: https://datasheet.octopart.com:443/0452005.MRL-Littelfuse-datasheet-9634991.pdf?src-supplier=RS+(Formerly+Allied+Electronics)
pins: 1, 2

## Littelfuse 0452010.MRL
designator F?  (value not drawn)
Electric Fuse, Time Lag Blow, 10A, 72VAC, 60VDC, 50A (IR), Surface Mount, NANO; Ratings: CE, CSA, TUV; Time to Trip: 2ms; Voltage Rating (AC): 72V; Voltage Rating (DC): 60V; Supplier: Farnell; Supplier Part Number: 0452010.MRL; Manufacturer: Littelfuse; Manufacturer Part Number: 0452010.MRL; RoHS: Compliant; Category: Fuses; Stock: 195; Pricing: 1=3,24, 50=2,06, 100=1,9, 250=1,71, 500=1,57, 1000=1,46 (EUR); Current Rating: 10A; Export Control Classification Number (ECCN) Code: EAR99; Height: 2.69mm; Harmonized Tariff Schedule (HTS) Code: 8536.10.00.40; Introduction Date: 2024-06-26; Length: 6.1mm; Lifecycle Status: Production; Max Operating Temperature: 125°C; Min Operating Temperature: -55°C; Mounting Technology: Surface Mount; REACH SVHC: No; ComponentLink1URL: https://datasheet.octopart.com:443/0452010.MRL-Littelfuse-datasheet-183575671.pdf?src-supplier=Sager+Electronics; ComponentLink1Description: https://datasheet.octopart.com:443/0452010.MRL-Littelfuse-datasheet-183575671.pdf?src-supplier=Sager+Electronics
pins: 1, 2